# Altium schematic symbol library STM32G030F6P6.SchLib: 1 symbol
Pins are listed as number, name and electrical type; pins without a type are passive.

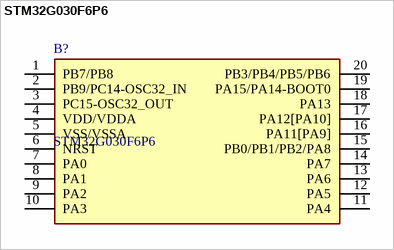
[diagram p0: symbol STM32G030F6P6]

## STM32G030F6P6
designator B?
Arm Cortex-M0+ 32-bit MCU, up to 64 KB Flash, 8 KB RAM, 2x USART, timers, ADC, comm. I/Fs, 2.0-3.6V; Manufacturer_Name: STMicroelectronics; Geometry.Height: 1.2mm; Mouser Part Number: 511-STM32G030F6P6; Mouser Price/Stock: https://www.mouser.co.uk/ProductDetail/STMicroelectronics/STM32G030F6P6?qs=uwxL4vQweFOQRcVHghCbHA%3D%3D; Manufacturer_Part_Number: STM32G030F6P6; Datasheet Link: https://www.st.com/resource/en/datasheet/stm32g030c6.pdf
footprint SOP65P640X120-20N
pins: 1 PB7/PB8, 2 PB9/PC14-OSC32_IN, 3 PC15-OSC32_OUT, 4 VDD/VDDA, 5 VSS/VSSA, 6 NRST, 7 PA0, 8 PA1, 9 PA2, 10 PA3, 11 PA4, 12 PA5, 13 PA6, 14 PA7, 15 PB0/PB1/PB2/PA8, 16 PA11[PA9], 17 PA12[PA10], 18 PA13, 19 PA15/PA14-BOOT0, 20 PB3/PB4/PB5/PB6